# EAGLE library part HRS_ZX62D-B-5P8 (library USB-Micro-B-2.0)
USB-B-MICRO-2.0
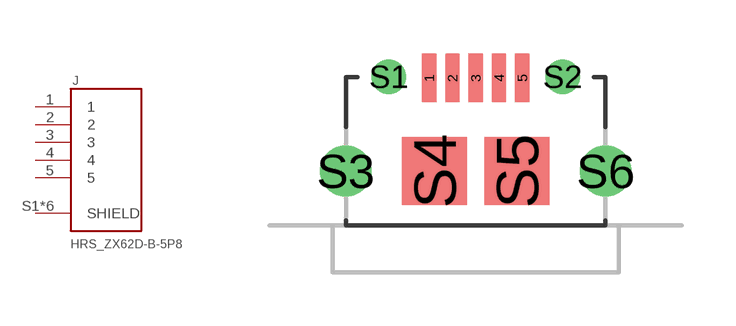
[diagram p6: symbol with the pads of HRS_ZX62D-B-5P8; footprint HRS_ZX62D-B-5P8]

Designator prefix J

## HRS_ZX62D-B-5P8  [HRS_ZX62D-B-5P8]
1  1  pas
2  2  pas
3  3  pas
4  4  pas
5  5  pas
S1  SHIELD  pas
S2  SHIELD  pas
S3  SHIELD  pas
S4  SHIELD  pas
S5  SHIELD  pas
S6  SHIELD  pas

## Footprint HRS_ZX62D-B-5P8 (pad centres in mm)
USB TYPE 2.0
smd 0.4 x 1.35: 1 -1.3,2.6; 2 -0.65,2.6; 3 0,2.6; 4 0.65,2.6; 5 1.3,2.6
drill 0.45: S1 -2.425,2.625; S2 2.425,2.625
drill 0.85 pad 1.422: S3 -3.625,0; S6 3.625,0
smd 1.8 x 1.9: S4 -1.15,0; S5 1.15,0